# Altium footprint library pcb.PcbLib: 30 footprints (part 1 of 2)
Each footprint in its own frame and in the unit in brackets; x right, y up, seen from the top. Pads: shape width x height; smd on the part's side, far side on the other; paste and mask are expansions set on the pad; w line width, h text height; cw(c..) or ccw(c..) is an arc to the next point about the centre after c.
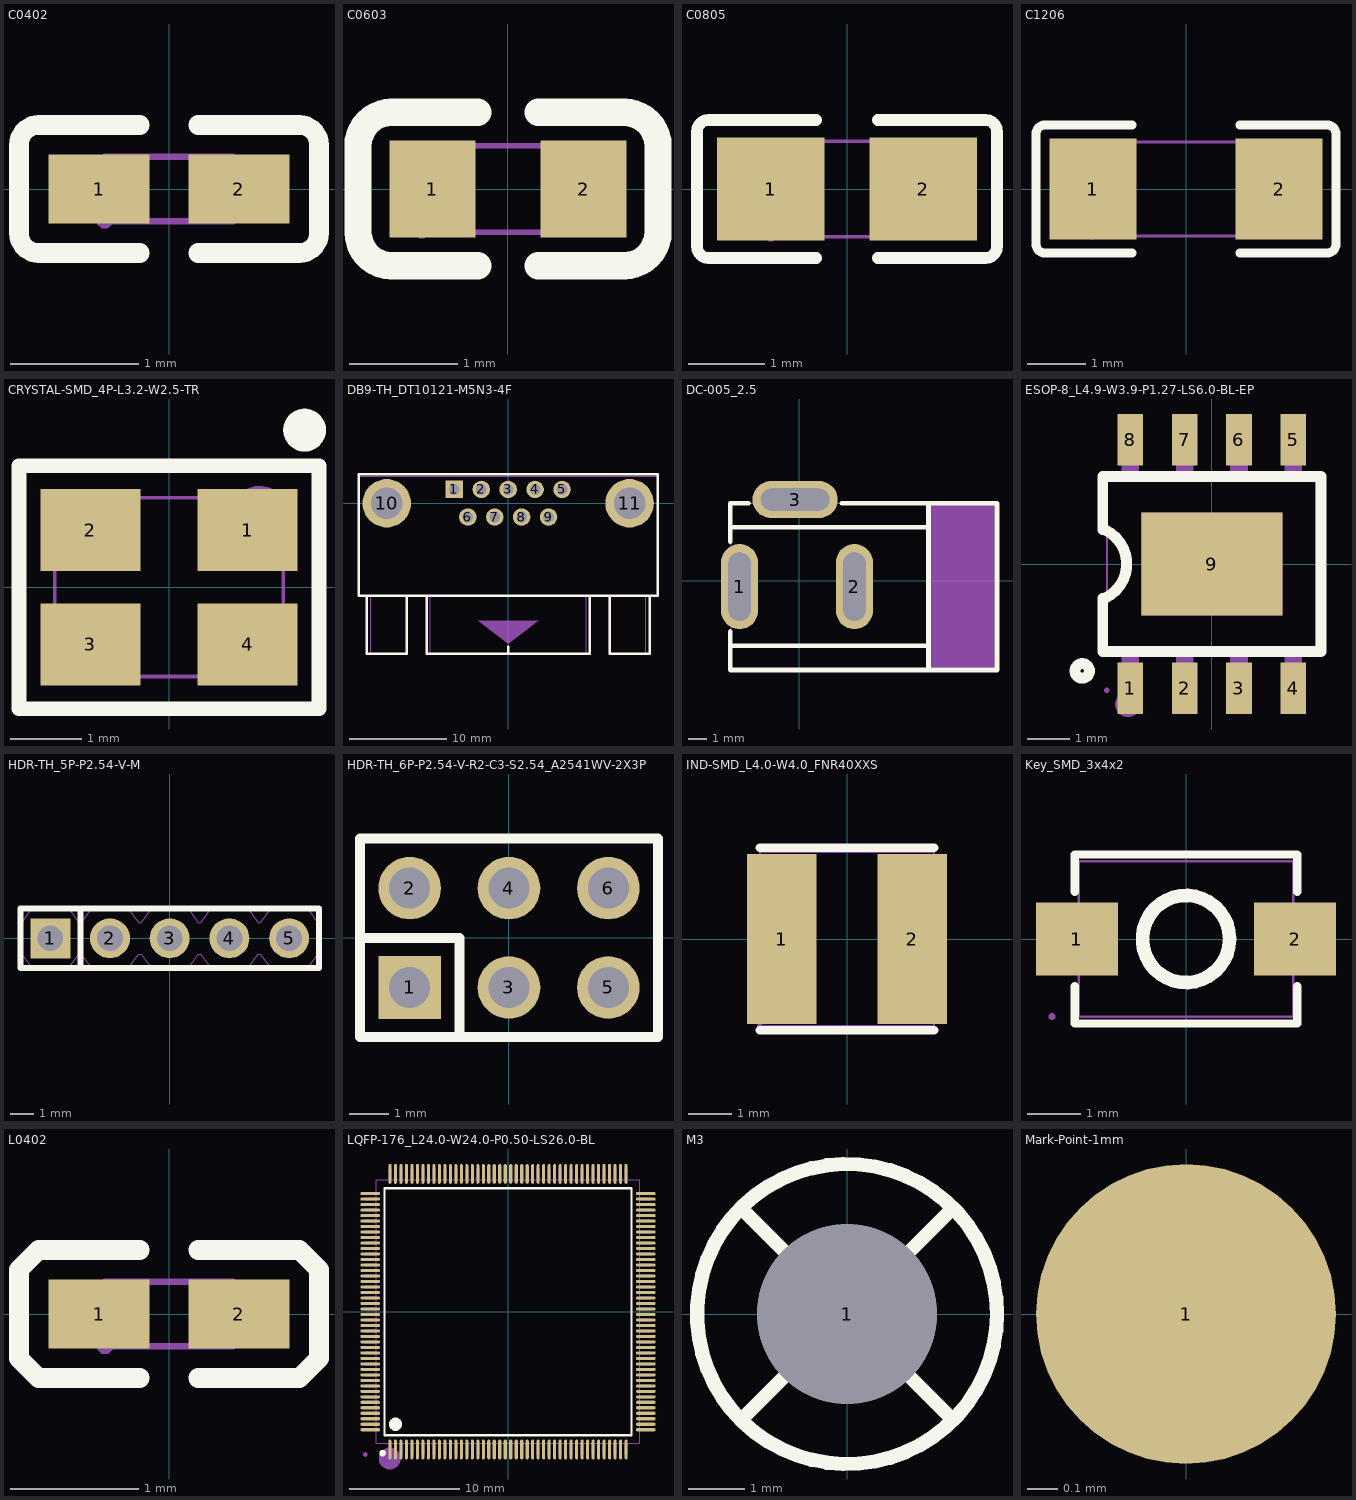
[diagram p0: the footprints below, top view; thin cyan lines are the x and y axes]

## C0402 [mm]
pads (2):
  rect 0.79x0.54 smd paste-100 mask+0.051: 1(-0.545,0) 2(0.545,0)
Top Overlay:
  lines w0.152: -0.226,-0.499 -1.016,-0.499 cw(c-1.016,-0.346) -1.169,-0.346 -1.169,0.346 cw(c-1.016,0.346) -1.016,0.499 -0.226,0.499 ; 0.226,-0.499 1.016,-0.499 ccw(c1.016,-0.346) 1.169,-0.346 1.169,0.346 ccw(c1.016,0.346) 1.016,0.499 0.226,0.499
Top Paste:
  region: -0.18,0.225 -0.18,-0.225 -0.25,-0.275 -0.73,-0.275 -0.78,-0.225 -0.78,0.225 -0.73,0.275 -0.25,0.275
  region: 0.78,0.225 0.78,-0.225 0.73,-0.275 0.25,-0.275 0.18,-0.225 0.18,0.225 0.25,0.275 0.73,0.275
Mechanical 15:
  region: -0.5,-0.25 -0.5,0.25 -0.25,0.25 -0.25,-0.25
  region: 0.5,-0.25 0.5,0.25 0.25,0.25 0.25,-0.25
  region: -0.44,-0.25 -0.441,-0.226 -0.476,-0.193 -0.524,-0.193 -0.559,-0.226 -0.56,-0.25 -0.559,-0.274 -0.524,-0.307 -0.476,-0.307 -0.441,-0.274 -0.44,-0.25
  lines w0.051: -0.5,-0.25 -0.5,0.25 0.5,0.25 0.5,-0.25 -0.5,-0.25

## C0603 [mm]
pads (2):
  rect 0.8x0.9 smd: 1(-0.7,0) 2(0.7,0)
Top Overlay:
  lines w0.254: -1.08,-0.71 -0.28,-0.71 ; -1.08,0.71 -0.28,0.71 ; -1.08,-0.71 cw(c-1.08,-0.4) -1.39,-0.4 -1.39,0.4 cw(c-1.08,0.4) -1.08,0.71 ; 0.28,-0.71 1.08,-0.71 ccw(c1.08,-0.4) 1.39,-0.4 1.39,0.4 ccw(c1.08,0.4) 1.08,0.71 0.28,0.71
Mechanical 15:
  region: -0.8,-0.4 -0.8,0.4 -0.5,0.4 -0.5,-0.4
  region: 0.8,-0.4 0.8,0.4 0.5,0.4 0.5,-0.4
  region: -0.74,-0.4 -0.741,-0.376 -0.776,-0.342 -0.824,-0.342 -0.859,-0.376 -0.86,-0.4 -0.859,-0.424 -0.824,-0.458 -0.776,-0.458 -0.741,-0.424 -0.74,-0.4
  lines w0.051: -0.8,-0.4 -0.8,0.4 0.8,0.4 0.8,-0.4 -0.8,-0.4

## C0805 [mm]
pads (2):
  rect 1.41x1.35 smd paste-100 mask+0.051: 1(-1,0) 2(1,0)
Top Overlay:
  lines w0.152: -0.401,-0.904 -1.811,-0.904 cw(c-1.811,-0.751) -1.964,-0.751 -1.964,0.751 cw(c-1.811,0.751) -1.811,0.904 -0.401,0.904 ; 0.401,-0.904 1.811,-0.904 ccw(c1.811,-0.751) 1.964,-0.751 1.964,0.751 ccw(c1.811,0.751) 1.811,0.904 0.401,0.904
Top Paste:
  region: -1.705,-0.64 -1.705,0.64 -1.655,0.69 -0.505,0.69 -0.455,0.64 -0.45,0.23 -0.9,0.23 -0.9,-0.22 -0.46,-0.22 -0.455,-0.64 -0.505,-0.69 -1.655,-0.69
  region: 1.705,0.64 1.705,-0.64 1.655,-0.69 0.505,-0.69 0.455,-0.64 0.45,-0.23 0.9,-0.23 0.9,0.22 0.46,0.22 0.455,0.64 0.505,0.69 1.655,0.69
Mechanical 15:
  region: -0.94,-0.625 -0.94,-0.6 -0.975,-0.565 -1.025,-0.565 -1.06,-0.6 -1.06,-0.625 -1.06,-0.65 -1.025,-0.685 -0.975,-0.685 -0.94,-0.65 -0.94,-0.625
  region: -1,-0.625 -1,0.625 -0.5,0.625 -0.5,-0.625
  region: 1,0.625 1,-0.625 0.5,-0.625 0.5,0.625
  lines w0.051: -1,-0.625 -1,0.625 1,0.625 1,-0.625 -1,-0.625

## C1206 [mm]
pads (2):
  rect 1.485x1.728 smd paste-100 mask+0.051: 1(-1.593,0) 2(1.593,0)
Top Overlay:
  lines w0.152: -0.926,-1.093 -2.411,-1.093 cw(c-2.411,-0.94) -2.564,-0.94 -2.564,0.94 cw(c-2.411,0.94) -2.411,1.093 -0.926,1.093 ; 0.926,-1.093 2.411,-1.093 ccw(c2.411,-0.94) 2.564,-0.94 2.564,0.94 ccw(c2.411,0.94) 2.411,1.093 0.926,1.093
Top Paste:
  region: 0.85,-0.764 0.85,-0.394 0.95,-0.294 1.255,-0.294 1.355,-0.194 1.355,0.194 1.255,0.294 0.95,0.294 0.85,0.394 0.85,0.764 0.95,0.864 2.235,0.864 2.335,0.764 2.335,-0.764 2.235,-0.864 0.95,-0.864
  region: -0.85,-0.764 -0.85,-0.394 -0.95,-0.294 -1.255,-0.294 -1.355,-0.194 -1.355,0.194 -1.255,0.294 -0.95,0.294 -0.85,0.394 -0.85,0.764 -0.95,0.864 -2.235,0.864 -2.335,0.764 -2.335,-0.764 -2.235,-0.864 -0.95,-0.864
Mechanical 15:
  region: -1.54,-0.8 -1.54,-0.775 -1.575,-0.74 -1.625,-0.74 -1.66,-0.775 -1.66,-0.8 -1.66,-0.825 -1.625,-0.86 -1.575,-0.86 -1.54,-0.825 -1.54,-0.8
  region: -1.6,-0.8 -1.6,0.8 -1.1,0.8 -1.1,-0.8
  region: 1.6,-0.8 1.6,0.8 1.1,0.8 1.1,-0.8
  lines w0.051: -1.6,-0.8 -1.6,0.8 1.6,0.8 1.6,-0.8 -1.6,-0.8

## CRYSTAL-SMD_4P-L3.2-W2.5-TR [mm]
pads (4):
  rect 1.4x1.15 smd: 1(1.1,0.8) 2(-1.1,0.8) 3(-1.1,-0.8) 4(1.1,-0.8)
Top Overlay:
  lines w0.203: -2.1,-1.7 2.1,-1.7 2.1,1.7 -2.1,1.7 -2.1,-1.7
  lines w0.3: 1.897,2.05 cw(c1.899,2.2) 1.9,2.05
Mechanical 6:
  circle w0.4: c1.27,1.016 r0.2
Mechanical 15:
  region: -0.6,-1.25 -1.6,-1.25 -1.6,-0.35 -0.6,-0.35
  region: 1.6,-1.25 0.6,-1.25 0.6,-0.35 1.6,-0.35
  region: -0.6,0.35 -1.6,0.35 -1.6,1.25 -0.6,1.25
  region: 1.66,1.25 1.659,1.274 1.624,1.308 1.576,1.308 1.541,1.274 1.54,1.25 1.541,1.226 1.576,1.192 1.624,1.192 1.659,1.226 1.66,1.25
  lines w0.051: -1.6,-1.25 1.6,-1.25 1.6,1.25 -1.6,1.25 -1.6,-1.25

## DB9-TH_DT10121-M5N3-4F [mm]
pads (11):
  rect 1.8x1.8 hole 1.1: 1(-5.54,1.42)
  round 1.8 hole 1.1: 2(-2.77,1.42) 3(0,1.42) 4(2.77,1.42) 5(5.54,1.42) 6(-4.155,-1.42) 7(-1.385,-1.42) 8(1.385,-1.42) 9(4.155,-1.42)
  round 5 hole 3.25: 10(-12.5,0) 11(12.5,0)
Top Overlay:
  lines w0.254: -14.569,-9.5 -14.569,-15.499 -10.46,-15.499 ; -10.43,-15.5 -10.43,-9.5 ; -8.37,-9.5 -8.37,-15.5 8.38,-15.5 8.38,-9.5 ; 0.005,-15.48 0.005,-14.78 ; 10.43,-9.5 10.43,-15.5 14.54,-15.5 ; 14.57,-15.5 14.57,-9.5 ; -15.4,-9.5 -15.4,3 15.4,3 15.4,-9.5 -15.4,-9.5
Mechanical 6:
  region: 0,-14.48 -3.1,-12.08 3.1,-12.08
Mechanical 15:
  region: -15.34,2.8 -15.34,2.825 -15.375,2.86 -15.425,2.86 -15.46,2.825 -15.46,2.8 -15.46,2.775 -15.425,2.74 -15.375,2.74 -15.34,2.775 -15.34,2.8
  region: -0.4,1.685 0.4,1.685 0.4,1.155 -0.4,1.155
  region: 5.14,1.685 5.94,1.685 5.94,1.155 5.14,1.155
  region: 2.37,1.685 3.17,1.685 3.17,1.155 2.37,1.155
  region: -3.17,1.685 -2.37,1.685 -2.37,1.155 -3.17,1.155
  region: -5.94,1.685 -5.14,1.685 -5.14,1.155 -5.94,1.155
  region: 3.755,-1.155 4.555,-1.155 4.555,-1.685 3.755,-1.685
  region: 0.985,-1.155 1.785,-1.155 1.785,-1.685 0.985,-1.685
  region: -1.785,-1.155 -0.985,-1.155 -0.985,-1.685 -1.785,-1.685
  region: -4.555,-1.155 -3.755,-1.155 -3.755,-1.685 -4.555,-1.685
  region: 11.1,-0.3 11.1,0.3 13.9,0.3 13.9,-0.3
  region: -13.9,-0.3 -13.9,0.3 -11.1,0.3 -11.1,-0.3
  lines w0.051: -15.4,-9.5 -15.4,2.8 15.4,2.8 15.4,-9.2 15.42,-9.2 15.42,-9.5 14.14,-9.5 14.15,-9.51 14.15,-15.5 10.39,-15.5 10.39,-9.5 8.02,-9.5 8.01,-15.5 -8.01,-15.5 -8.01,-9.5 -10.38,-9.5 -10.38,-15.5 -14.16,-15.5 -14.16,-9.5 -15.4,-9.5

## DC-005_2.5 [mm]
pads (3):
  oval 2x4.6 hole 1.2 slot 3.7 at 90 deg paste-2539.97 mask+0.051: 1(-3.227,-0.318) 2(2.973,-0.318)
  oval 4.6x2 hole 1.2 slot 3.7 at 0 deg paste-2539.97 mask+0.051: 3(-0.227,4.382)
Top Overlay:
  lines w0.254: -3.727,-3.518 6.893,-3.518 ; -3.727,-2.743 -3.727,-4.818 10.673,-4.818 10.673,4.182 2.288,4.182 ; -3.727,2.106 -3.727,4.182 -2.742,4.182 ; -3.727,2.882 6.893,2.882 ; 6.973,-4.818 6.973,4.182
Mechanical 6:
  region: 10.473,-4.668 7.073,-4.668 7.073,4.132 10.473,4.132
Mechanical 15:
  region: 1.023,4.582 -1.477,4.582 -1.477,4.122 1.023,4.122
  region: 2.773,0.932 3.173,0.932 3.173,-1.568 2.773,-1.568
  region: 1.023,4.182 -1.477,4.182 -1.477,4.582 1.023,4.582
  region: -3.027,-1.568 -3.427,-1.568 -3.427,0.932 -3.027,0.932
  region: -3.617,-4.818 -3.617,-4.793 -3.652,-4.758 -3.702,-4.758 -3.737,-4.793 -3.737,-4.818 -3.737,-4.843 -3.702,-4.878 -3.652,-4.878 -3.617,-4.843 -3.617,-4.818
  lines w0.051: -3.677,-4.818 -3.677,4.182 10.523,4.182 10.523,-4.818 -3.677,-4.818

## ESOP-8_L4.9-W3.9-P1.27-LS6.0-BL-EP [mm]
pads (9):
  rect 0.6x1.2 smd: 1(-1.905,-2.908) 2(-0.635,-2.908) 3(0.635,-2.908) 4(1.905,-2.908) 5(1.905,2.908) 6(0.635,2.908) 7(-0.635,2.908) 8(-1.905,2.908)
  rect 3.3x2.4 smd: 9(0,0)
Top Overlay:
  circle w0.254: c-3.03,-2.5 r0.17
  lines w0.254: -2.55,-0.8 -2.55,-2.05 2.55,-2.05 2.55,2.05 -2.55,2.05 -2.55,0.8 ; -2.5,-0.8 ccw(c-2.875,0) -2.5,0.8
Mechanical 6:
  circle w0.3: c-1.96,-3.28 r0.15
Mechanical 15:
  region: 1.65,-1.2 -1.65,-1.2 -1.65,1.2 1.65,1.2
  region: 1.705,-2.95 1.705,-2.3 2.105,-2.3 2.105,-2.95
  region: 1.705,-2.31 1.705,-1.94 2.105,-1.94 2.105,-2.31
  region: 0.435,-2.95 0.435,-2.3 0.835,-2.3 0.835,-2.95
  region: 0.435,-2.31 0.435,-1.94 0.835,-1.94 0.835,-2.31
  region: -0.835,-2.95 -0.835,-2.3 -0.435,-2.3 -0.435,-2.95
  region: -0.835,-2.31 -0.835,-1.94 -0.435,-1.94 -0.435,-2.31
  region: -2.105,-2.95 -2.105,-2.3 -1.705,-2.3 -1.705,-2.95
  region: -2.105,-2.31 -2.105,-1.94 -1.705,-1.94 -1.705,-2.31
  region: 1.705,2.3 1.705,2.95 2.105,2.95 2.105,2.3
  region: 1.705,1.94 1.705,2.31 2.105,2.31 2.105,1.94
  region: 0.435,2.3 0.435,2.95 0.835,2.95 0.835,2.3
  region: 0.435,1.94 0.435,2.31 0.835,2.31 0.835,1.94
  region: -0.835,2.3 -0.835,2.95 -0.435,2.95 -0.435,2.3
  region: -0.835,1.94 -0.835,2.31 -0.435,2.31 -0.435,1.94
  region: -2.105,2.3 -2.105,2.95 -1.705,2.95 -1.705,2.3
  region: -2.105,1.94 -2.105,2.31 -1.705,2.31 -1.705,1.94
  region: -2.394,-2.95 -2.395,-2.925 -2.43,-2.891 -2.479,-2.891 -2.514,-2.925 -2.514,-2.95 -2.514,-2.975 -2.479,-3.009 -2.43,-3.009 -2.394,-2.975 -2.394,-2.95
  lines w0.051: -2.45,-1.95 -2.45,1.95 2.45,1.95 2.45,-1.95 -2.45,-1.95

## HDR-TH_5P-P2.54-V-M [mm]
pads (5):
  rect 1.7x1.7 hole 1.1: 1(-5.08,0)
  round 1.7 hole 1.1: 2(-2.54,0) 3(0,0) 4(2.54,0) 5(5.08,0)
Top Overlay:
  lines w0.254: -3.786,-1.27 -3.786,1.27 ; -6.35,-1.27 6.35,-1.27 6.35,1.27 -6.35,1.27 -6.35,-1.27
Mechanical 15:
  region: -6.29,-1.271 -6.29,-1.246 -6.325,-1.211 -6.375,-1.211 -6.41,-1.246 -6.41,-1.271 -6.41,-1.296 -6.375,-1.331 -6.325,-1.331 -6.29,-1.296 -6.29,-1.271
  region: 4.76,0.32 5.4,0.32 5.4,-0.32 4.76,-0.32
  region: 2.22,0.32 2.86,0.32 2.86,-0.32 2.22,-0.32
  region: -0.32,0.32 0.32,0.32 0.32,-0.32 -0.32,-0.32
  region: -2.86,0.32 -2.22,0.32 -2.22,-0.32 -2.86,-0.32
  region: -5.4,0.32 -4.76,0.32 -4.76,-0.32 -5.4,-0.32
  lines w0.051: -6.35,-0.67 -6.35,0.67 -6.299,0.67 -6.028,1.032 -5.85,1.27 -4.31,1.27 -4.149,1.059 -4.048,0.925 -4.017,0.884 -3.86,0.67 -3.76,0.67 -3.31,1.27 -1.77,1.27 -1.631,1.088 -1.546,0.976 -1.459,0.859 -1.436,0.827 -1.417,0.801 -1.32,0.67 -1.22,0.67 -0.77,1.27 0.77,1.27 0.867,1.143 1.01,0.955 1.108,0.822 1.136,0.783 1.22,0.67 1.32,0.67 1.77,1.27 3.31,1.27 3.458,1.076 3.533,0.979 3.76,0.67 3.86,0.67 4.311,1.27 5.85,1.27 6.079,0.97 6.112,0.925 6.3,0.67 6.35,0.67 6.35,-0.67 6.3,-0.67 6.075,-0.976 5.85,-1.27 4.31,-1.27 3.86,-0.67 3.759,-0.67 3.581,-0.913 3.545,-0.963 3.51,-1.009 3.31,-1.271 1.77,-1.27 1.32,-0.67 1.22,-0.67 1.02,-0.942 0.992,-0.98 0.77,-1.27 -0.77,-1.27 -1.22,-0.67 -1.32,-0.67 -1.503,-0.919 -1.542,-0.972 -1.77,-1.27 -3.31,-1.27 -3.76,-0.67 -3.86,-0.67 -4.077,-0.965 -4.31,-1.27 -5.85,-1.27 -6.3,-0.67 -6.35,-0.67 -6.35,-0.67 ; -6.35,-0.67 -6.35,-0.67

## HDR-TH_6P-P2.54-V-R2-C3-S2.54_A2541WV-2X3P [mm]
pads (6):
  rect 1.6x1.6 hole 1.05: 1(-2.54,-1.27)
  round 1.6 hole 1.05: 2(-2.54,1.27) 3(0,-1.27) 4(0,1.27) 5(2.54,-1.27) 6(2.54,1.27)
Top Overlay:
  lines w0.254: -3.81,0 -1.27,0 -1.27,-2.54 ; -3.81,-2.54 3.81,-2.54 3.81,2.54 -3.81,2.54 -3.81,-2.54
Mechanical 15:
  region: -2.86,-0.95 -2.22,-0.95 -2.22,-1.59 -2.86,-1.59
  region: -2.86,1.59 -2.22,1.59 -2.22,0.95 -2.86,0.95
  region: -0.32,1.59 0.32,1.59 0.32,0.95 -0.32,0.95
  region: -0.32,-0.95 0.32,-0.95 0.32,-1.59 -0.32,-1.59
  region: 2.22,-0.95 2.86,-0.95 2.86,-1.59 2.22,-1.59
  region: 2.22,1.59 2.86,1.59 2.86,0.95 2.22,0.95
  region: -3.74,-2.54 -3.74,-2.515 -3.775,-2.48 -3.825,-2.48 -3.86,-2.515 -3.86,-2.54 -3.86,-2.565 -3.825,-2.6 -3.775,-2.6 -3.74,-2.565 -3.74,-2.54
  lines w0.051: -3.81,-2.54 -3.81,2.54 3.81,2.54 3.81,-2.54 -3.81,-2.54

## IND-SMD_L4.0-W4.0_FNR40XXS [mm]
pads (2):
  rect 1.6x3.9 smd: 1(-1.5,0) 2(1.5,0)
Top Overlay:
  lines w0.203: -2,-2.1 2,-2.1 ; -2,2.1 2,2.1
Mechanical 15:
  region: -1.051,1.65 -1.051,-1.65 -2.001,-1.65 -2.001,1.65
  region: 2.001,1.65 2.001,-1.65 1.051,-1.65 1.051,1.65
  region: -1.94,-2.003 -1.94,-1.978 -1.975,-1.943 -2.025,-1.943 -2.06,-1.978 -2.06,-2.003 -2.06,-2.028 -2.025,-2.063 -1.975,-2.063 -1.94,-2.028 -1.94,-2.003
  lines w0.051: -2,-2 2,-2 2,2 -2,2 -2,-2

## Key_SMD_3x4x2 [mm]
pads (2):
  rect 1.53x1.36 smd paste+0 mask+0.051: 1(-2.035,0) 2(2.035,0)
Top Overlay:
  circle w0.254: c0,0 r0.813
  lines w0.152: -2.076,-0.883 -2.076,-1.576 2.076,-1.576 2.076,-0.883 ; -2.076,0.883 -2.076,1.576 2.076,1.576 2.076,0.883
Mechanical 15:
  region: -2.5,0.65 -2.5,-0.65 -1.3,-0.65 -1.3,0.65
  region: 2.5,0.65 2.5,-0.65 1.3,-0.65 1.3,0.65
  region: -2.44,-1.45 -2.44,-1.425 -2.475,-1.39 -2.525,-1.39 -2.56,-1.425 -2.56,-1.45 -2.56,-1.475 -2.525,-1.51 -2.475,-1.51 -2.44,-1.475 -2.44,-1.45
  lines w0.051: -2,-1.45 -2,1.45 2,1.45 2,-1.45 -2,-1.45

## L0402 [mm]
pads (2):
  rect 0.79x0.54 smd paste-100 mask+0.051: 1(-0.545,0) 2(0.545,0)
Top Overlay:
  lines w0.152: -0.226,-0.499 -1.016,-0.499 -1.169,-0.346 -1.169,0.346 -1.016,0.499 -0.226,0.499 ; 0.226,-0.499 1.016,-0.499 1.169,-0.346 1.169,0.346 1.016,0.499 0.226,0.499
Top Paste:
  region: 0.135,-0.086 0.135,0.086 0.404,0.27 0.9,0.27 0.94,0.23 0.94,-0.23 0.9,-0.27 0.404,-0.27
  region: -0.135,-0.086 -0.135,0.086 -0.404,0.27 -0.9,0.27 -0.94,0.23 -0.94,-0.23 -0.9,-0.27 -0.404,-0.27
Mechanical 15:
  region: -0.5,-0.25 -0.5,0.25 -0.25,0.25 -0.25,-0.25
  region: 0.5,-0.25 0.5,0.25 0.25,0.25 0.25,-0.25
  region: -0.44,-0.25 -0.44,-0.225 -0.475,-0.19 -0.525,-0.19 -0.56,-0.225 -0.56,-0.25 -0.56,-0.275 -0.525,-0.31 -0.475,-0.31 -0.44,-0.275 -0.44,-0.25
  lines w0.051: -0.5,-0.25 -0.5,0.25 0.5,0.25 0.5,-0.25 -0.5,-0.25

## LQFP-176_L24.0-W24.0-P0.50-LS26.0-BL [mm]
pads (176):
  oval 0.28x1.8 smd: 1(-10.75,-12.55) 2(-10.25,-12.55) 3(-9.75,-12.55) 4(-9.25,-12.55) 5(-8.75,-12.55) 6(-8.25,-12.55) 7(-7.75,-12.55) 8(-7.25,-12.55) 9(-6.75,-12.55) 10(-6.25,-12.55) 11(-5.75,-12.55) 12(-5.25,-12.55) 13(-4.75,-12.55) 14(-4.25,-12.55) 15(-3.75,-12.55) 16(-3.25,-12.55) 17(-2.75,-12.55) 18(-2.25,-12.55) 19(-1.75,-12.55) 20(-1.25,-12.55) 21(-0.75,-12.55) 22(-0.25,-12.55) 23(0.25,-12.55) 24(0.75,-12.55) 25(1.25,-12.55) 26(1.75,-12.55) 27(2.25,-12.55) 28(2.75,-12.55) 29(3.25,-12.55) 30(3.75,-12.55) 31(4.25,-12.55) 32(4.75,-12.55) 33(5.25,-12.55) 34(5.75,-12.55) 35(6.25,-12.55) 36(6.75,-12.55) 37(7.25,-12.55) 38(7.75,-12.55) 39(8.25,-12.55) 40(8.75,-12.55) 41(9.25,-12.55) 42(9.75,-12.55) 43(10.25,-12.55) 44(10.75,-12.55) 89(10.75,12.55) 90(10.25,12.55) 91(9.75,12.55) 92(9.25,12.55) 93(8.75,12.55) 94(8.25,12.55) 95(7.75,12.55) 96(7.25,12.55) 97(6.75,12.55) 98(6.25,12.55) 99(5.75,12.55) 100(5.25,12.55) 101(4.75,12.55) 102(4.25,12.55) 103(3.75,12.55) 104(3.25,12.55) 105(2.75,12.55) 106(2.25,12.55) 107(1.75,12.55) 108(1.25,12.55) 109(0.75,12.55) 110(0.25,12.55) 111(-0.25,12.55) 112(-0.75,12.55) 113(-1.25,12.55) 114(-1.75,12.55) 115(-2.25,12.55) 116(-2.75,12.55) 117(-3.25,12.55) 118(-3.75,12.55) 119(-4.25,12.55) 120(-4.75,12.55) 121(-5.25,12.55) 122(-5.75,12.55) 123(-6.25,12.55) 124(-6.75,12.55) 125(-7.25,12.55) 126(-7.75,12.55) 127(-8.25,12.55) 128(-8.75,12.55) 129(-9.25,12.55) 130(-9.75,12.55) 131(-10.25,12.55) 132(-10.75,12.55)
  oval 1.8x0.28 smd: 45(12.55,-10.75) 46(12.55,-10.25) 47(12.55,-9.75) 48(12.55,-9.25) 49(12.55,-8.75) 50(12.55,-8.25) 51(12.55,-7.75) 52(12.55,-7.25) 53(12.55,-6.75) 54(12.55,-6.25) 55(12.55,-5.75) 56(12.55,-5.25) 57(12.55,-4.75) 58(12.55,-4.25) 59(12.55,-3.75) 60(12.55,-3.25) 61(12.55,-2.75) 62(12.55,-2.25) 63(12.55,-1.75) 64(12.55,-1.25) 65(12.55,-0.75) 66(12.55,-0.25) 67(12.55,0.25) 68(12.55,0.75) 69(12.55,1.25) 70(12.55,1.75) 71(12.55,2.25) 72(12.55,2.75) 73(12.55,3.25) 74(12.55,3.75) 75(12.55,4.25) 76(12.55,4.75) 77(12.55,5.25) 78(12.55,5.75) 79(12.55,6.25) 80(12.55,6.75) 81(12.55,7.25) 82(12.55,7.75) 83(12.55,8.25) 84(12.55,8.75) 85(12.55,9.25) 86(12.55,9.75) 87(12.55,10.25) 88(12.55,10.75) 133(-12.55,10.75) 134(-12.55,10.25) 135(-12.55,9.75) 136(-12.55,9.25) 137(-12.55,8.75) 138(-12.55,8.25) 139(-12.55,7.75) 140(-12.55,7.25) 141(-12.55,6.75) 142(-12.55,6.25) 143(-12.55,5.75) 144(-12.55,5.25) 145(-12.55,4.75) 146(-12.55,4.25) 147(-12.55,3.75) 148(-12.55,3.25) 149(-12.55,2.75) 150(-12.55,2.25) 151(-12.55,1.75) 152(-12.55,1.25) 153(-12.55,0.75) 154(-12.55,0.25) 155(-12.55,-0.25) 156(-12.55,-0.75) 157(-12.55,-1.25) 158(-12.55,-1.75) 159(-12.55,-2.25) 160(-12.55,-2.75) 161(-12.55,-3.25) 162(-12.55,-3.75) 163(-12.55,-4.25) 164(-12.55,-4.75) 165(-12.55,-5.25) 166(-12.55,-5.75) 167(-12.55,-6.25) 168(-12.55,-6.75) 169(-12.55,-7.25) 170(-12.55,-7.75) 171(-12.55,-8.25) 172(-12.55,-8.75) 173(-12.55,-9.25) 174(-12.55,-9.75) 175(-12.55,-10.25) 176(-12.55,-10.75)
Top Overlay:
  lines w0.2: -11.25,-11.25 -11.25,11.25 11.25,11.25 11.25,-11.25 -11.25,-11.25
  lines w0.3: -11.425,-12.725 ccw(c-11.424,-12.875) -11.422,-12.725
  lines w0.6: -10.249,-9.949 ccw(c-10.246,-10.249) -10.244,-9.949
Mechanical 6:
  circle w1: c-10.77,-13.37 r0.5
Mechanical 15:
  drawing of 357 lines, arcs and shapes, not listed

## M3 [mil]
pads (1):
  round 126 hole 126 paste-99999 mask+4: 1(0,0)
Top Overlay:
  circle w10: c0,0 r105
  lines w10: -72.5,-72.5 72.5,72.5 ; -72.5,72.5 72.5,-72.5

## Mark-Point-1mm [mm]
pads (1):
  round 1 smd paste-25.4 mask+0.5: 1(0,0)